# Altium integrated library Connectors.IntLib: 6 symbols
Pins are listed as number, name and electrical type; pins without a type are passive.

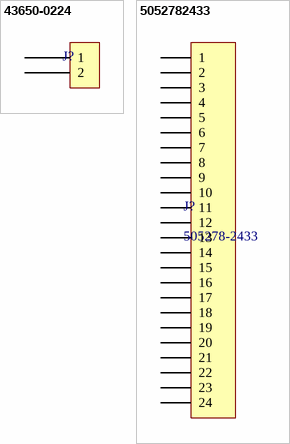
[diagram p0: symbols 43650-0224 to 5052782433]

## 43650-0224
designator J?  (value not drawn)
Headers & Wire Housings MICRO-FIT 3.0 HEADER; Manufacturer: Molex; Manufacturer Part Number: 43650-0224; Current Rating: 5 A; Mounting Angle: Vertical; Number of Positions: 2 Position; Voltage Rating: 600 V; Pitch: 3 mm; Qualification: Commercial; Supplier 1: Mouser; Supplier Part Number 1: 538-43650-0224; RoHS: RoHS Compliant; Category: Headers & Wire Housings; Stock 1: 1526; Pricing 1: 1=1.88, 10=1.69, 25=1.61, 100=1.46, 250=1.35, 500=1.15, 1000=1.07, 1800=1.02, 3600=0.999 (EUR); Accessory Type: -; Contact Plating: Tin; Contact Type: -; Housing Material: Liquid Crystal Polymer (LCP); Number of Rows: 1 Row; Packaging: Reel; Product: Headers; Series: 43650; Termination Style: SMD; Type: Power; Brand: Molex; Contact Material: Brass; Mounting Style: SMD; Row Spacing: -; Contact Gender: Pin (Male); Standard Pack Qty: 1800; Tradename: Micro-Fit 3.0; RoHS - Mouser: Y; Minimum Order Quantity: 1; Reeling: True; ComponentLink1URL: http://www.mouser.com/ds/2/276/0436500224_PCB_HEADERS-168469.pdf; ComponentLink1Description: http://www.mouser.com/ds/2/276/0436500224_PCB_HEADERS-168469.pdf
footprint 43650-0224
pins: 1, 2

## 5052782433
designator J?, comment 505278-2433
0.5 FFC ZIF BTM CONT EMBT PKG 24; Manufacturer: Molex, LLC; Manufacturer Part Number: 5052782433; Flat Flex Type: FFC, FPC; Connector/Contact Type: Contacts, Bottom; Number of Positions: 24; Pitch: 0.020" (0.50mm); FFC, FCB Thickness: 0.30mm; Locking Feature: Flip Lock; Cable End Type: Tabbed, Tapered; Actuator Material: Polyamide (PA), Nylon, Glass Filled; Voltage Rating: 50V; Material Flammability Rating: UL94 V-0; Current Rating: 0.5A; Supplier 1: Digi-Key; Supplier Part Number 1: 5052782433-ND; RoHS: RoHS Compliant; Category: Connectors, Interconnects; Stock 1: 0; Pricing 1: 3000=0.4308 (USD); Packaging: Tape & Reel (TR); Part Status: Active; Mounting Type: Surface Mount, Right Angle; Termination: Solder; Height Above Board: 0.075" (1.90mm); Contact Material: Phosphor Bronze; Contact Finish: Tin; Housing Material: Liquid Crystal Polymer (LCP), Glass Filled; Features: Solder Retention; Operating Temperature: -40°C ~ 85°C; ComponentLink1URL: http://www.molex.com/pdm_docs/sd/5052782433_sd.pdf; ComponentLink1Description: http://www.molex.com/pdm_docs/sd/5052782433_sd.pdf
footprint 505278-2433
pins: 1, 2, 3, 4, 5, 6, 7, 8, 9, 10, 11, 12, 13, 14, 15, 16, 17, 18, 19, 20, 21, 22, 23, 24


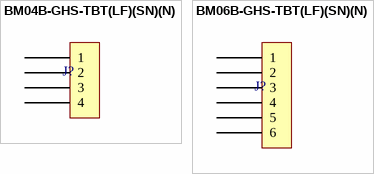
[diagram p1: symbols BM04B-GHS-TBT(LF)(SN)(N) to BM06B-GHS-TBT(LF)(SN)(N)]

## BM04B-GHS-TBT(LF)(SN)(N)
designator J?  (value not drawn)
CONN HEADER GH TOP 4POS 1.25MM; Manufacturer: JST Sales America Inc.; Manufacturer Part Number: BM04B-GHS-TBT(LF)(SN)(N); Connector Type: Header, Shrouded; Number of Positions: 4; Number of Positions Loaded: All; Pitch: 0.049" (1.25mm); Supplier 1: Digi-Key; Supplier Part Number 1: 455-1580-1-ND; RoHS: RoHS Compliant; Category: Connectors, Interconnects; Stock 1: 26095; Pricing 1: 1=0.44, 10=0.413, 100=0.3163, 500=0.27502, 1000=0.22689 (USD); Packaging: Cut Tape (CT); Contact Type: Outer Shroud Contact; Number of Rows: 1; Row Spacing: -; Contact Mating Length: -; Mounting Type: Surface Mount; Termination: Solder; Fastening Type: Locking Ramp; Features: Solder Retention; Contact Finish: Tin; Contact Finish Thickness: -; Color: Natural; ComponentLink1URL: http://www.jst-mfg.com/product/pdf/eng/eGH.pdf; ComponentLink1Description: http://www.jst-mfg.com/product/pdf/eng/eGH.pdf
footprint BM04B-GHS-TBT (Vertical)
pins: 1, 2, 3, 4

## BM06B-GHS-TBT(LF)(SN)(N)
designator J?
CONN HEADER GH TOP 6POS 1.25MM; Manufacturer: JST Sales America Inc.; Manufacturer Part Number: BM06B-GHS-TBT(LF)(SN)(N); Connector Type: Header, Shrouded; Number of Positions: 6; Number of Positions Loaded: All; Pitch: 0.049" (1.25mm); Supplier 1: Digi-Key; Supplier Part Number 1: 455-1582-1-ND; RoHS: RoHS Compliant; Category: Connectors, Interconnects; Stock 1: 150348; Pricing 1: 1=0.56, 10=0.524, 100=0.4019, 500=0.34948, 1000=0.28832 (USD); Packaging: Cut Tape (CT); Contact Type: Outer Shroud Contact; Number of Rows: 1; Row Spacing: -; Contact Mating Length: -; Mounting Type: Surface Mount; Termination: Solder; Fastening Type: Locking Ramp; Features: Solder Retention; Contact Finish: Tin; Contact Finish Thickness: -; Color: Natural; ComponentLink1URL: http://www.jst-mfg.com/product/pdf/eng/eGH.pdf; ComponentLink1Description: http://www.jst-mfg.com/product/pdf/eng/eGH.pdf
footprint BM06B-GHS-TBT (Vertical)
pins: 1, 2, 3, 4, 5, 6


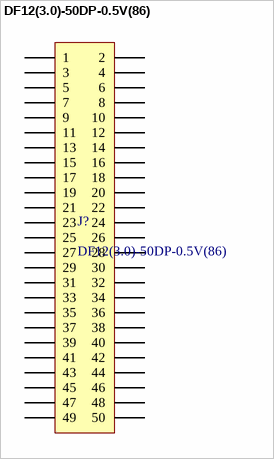
[diagram p2: symbol DF12(3.0)-50DP-0.5V(86)]

## DF12(3.0)-50DP-0.5V(86)
designator J?
Board to Board & Mezzanine Connectors 50P V SMT DR HDR 3.0MM STACK HT GOLD; Manufacturer: Hirose Connector; Current Rating: 300 mA; Mounting Angle: Vertical; Number of Positions: 50 Position; Voltage Rating: 50 V; Pitch: 0.5 mm; Stack Height: 3 mm; Supplier 1: Mouser; Supplier Part Number 1: 798-DF123050DP0.5V86; Manufacturer Part Number: DF12(3.0)-50DP-0.5V(86); RoHS: RoHS Compliant; Category: Board to Board & Mezzanine Connectors; Stock 1: 3370; Pricing 1: 1=1.50, 10=1.22, 100=1.17, 250=1.06, 500=0.968, 1000=0.836, 2000=0.710, 5000=0.674, 10000=0.659 (EUR); Contact Plating: Gold; Number of Rows: 2 Row; Packaging: Reel; Product: Headers; Series: DF12; Termination Style: SMD; Brand: Hirose Connector; Contact Material: Phosphor Copper; Standard Pack Qty: 1000; RoHS - Mouser: Y; Minimum Order Quantity: 1; Reeling: True; ComponentLink1URL: http://www.mouser.com/ds/2/185/DF12_catalog-938983.pdf; ComponentLink1Description: http://www.mouser.com/ds/2/185/DF12_catalog-938983.pdf
footprint DF12(3.0)-50DP-0.5V(86) (Board-to-board)
pins: 1, 2, 3, 4, 5, 6, 7, 8, 9, 10, 11, 12, 13, 14, 15, 16, 17, 18, 19, 20, 21, 22, 23, 24, 25, 26, 27, 28, 29, 30, 31, 32, 33, 34, 35, 36, 37, 38, 39, 40, 41, 42, 43, 44, 45, 46, 47, 48, 49, 50


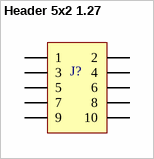
[diagram p3: symbol Header 5x2 1.27]

## Header 5x2 1.27
designator J?  (value not drawn)
footprint 2x5 Header 1.27mm
pins: 1, 2, 3, 4, 5, 6, 7, 8, 9, 10